# Altium footprint library FDV305N.PCBLIB: 1 footprints
Each footprint in its own frame and in the unit in brackets; x right, y up, seen from the top. Pads: shape width x height; smd on the part's side, far side on the other; paste and mask are expansions set on the pad; w line width, h text height; cw(c..) or ccw(c..) is an arc to the next point about the centre after c.
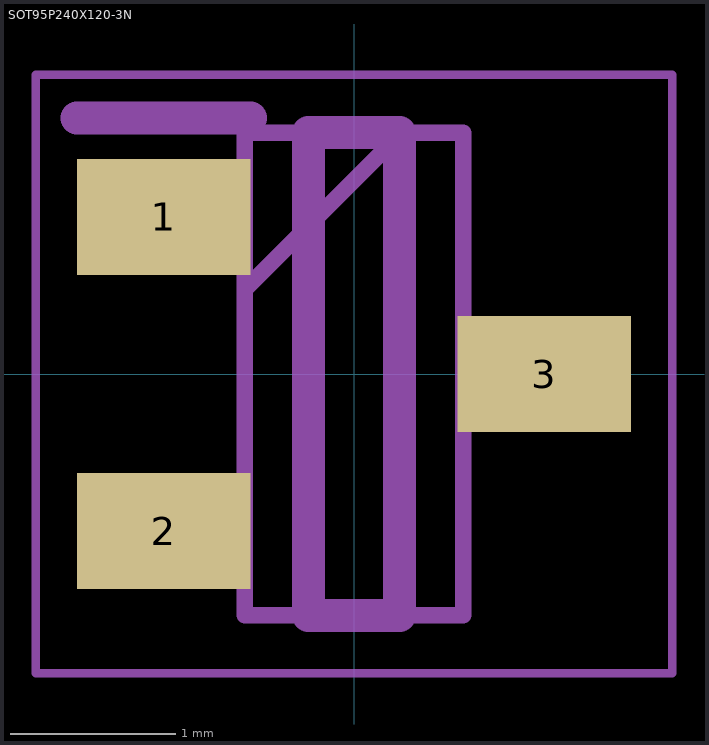
[diagram p0: the footprint, top view; thin cyan lines are the x and y axes]

## SOT95P240X120-3N [mm]
pads (3):
  rect 1.05x0.7 smd: 1(-1.15,0.95) 2(-1.15,-0.95) 3(1.15,0)
tDocu:
  lines w0.05: -1.925,-1.81 1.925,-1.81 1.925,1.81 -1.925,1.81 -1.925,-1.81
  lines w0.1: -0.662,0.51 0.288,1.46 ; -0.662,-1.46 0.662,-1.46 0.662,1.46 -0.662,1.46 -0.662,-1.46
tPlace:
  lines w0.2: -1.675,1.55 -0.625,1.55 ; -0.275,-1.46 0.275,-1.46 0.275,1.46 -0.275,1.46 -0.275,-1.46